# Altium footprint library VREG_LM2596S-3.3_NOPB.PcbLib: 1 footprints
Each footprint in its own frame and in the unit in brackets; x right, y up, seen from the top. Pads: shape width x height; smd on the part's side, far side on the other; paste and mask are expansions set on the pad; w line width, h text height; cw(c..) or ccw(c..) is an arc to the next point about the centre after c.
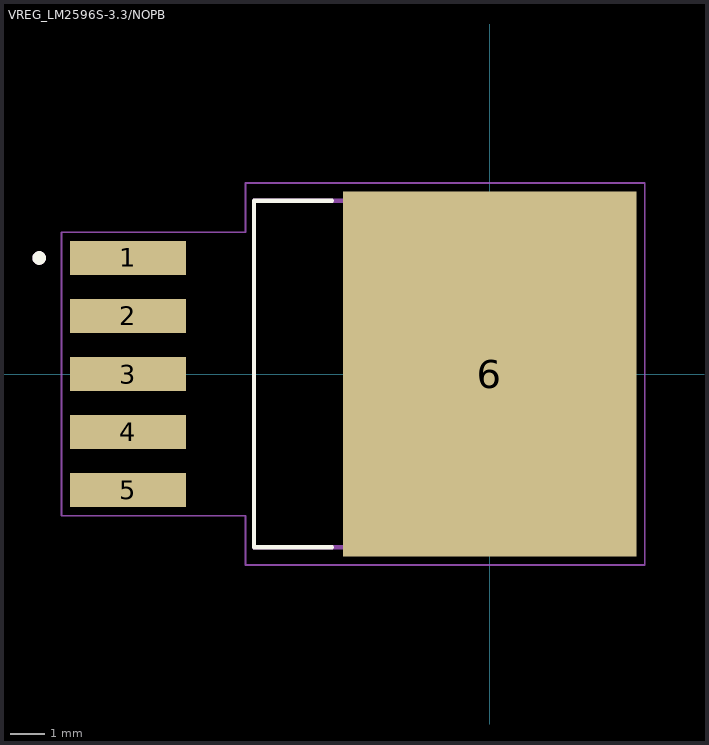
[diagram p0: the footprint, top view; thin cyan lines are the x and y axes]

## VREG_LM2596S-3.3/NOPB [mm]
pads (6):
  rect 3.4x1 smd paste-0.05 mask+0.07: 1(-10.6,3.4) 2(-10.6,1.7) 3(-10.6,0) 4(-10.6,-1.7) 5(-10.6,-3.4)
  rect 8.6x10.7 smd paste-0.05 mask+0.07: 6(0,0)
Top Overlay:
  circle w0.2: c-13.2,3.4 r0.1
  lines w0.127: -4.62,-5.08 -6.905,-5.08 -6.905,5.08 -4.62,5.08
Assembly Top:
  circle w0.2: c-13.2,3.4 r0.1
  lines w0.127: -6.905,-5.08 -6.905,5.08 2.02,5.08 2.02,-5.08 -6.905,-5.08
Courtyard Top:
  lines w0.05: -12.55,-4.15 -7.155,-4.15 -7.155,-5.6 4.55,-5.6 4.55,5.6 -7.155,5.6 -7.155,4.15 -12.55,4.15 -12.55,-4.15
3D body "step_temp.STEP": height 4.65, standoff -0.15, extent -11.366,-5.08 2.985,5.08